# EAGLE library part LT6370HDD#PBF (library LT6370HDD_PBF)
Check availability <https://pricing.snapeda.com/parts/LT6370HDD%23PBF/Analog%20Devices/view-part?ref=eda>
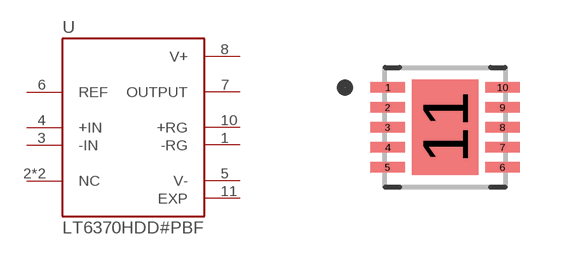
[diagram p0: symbol with the pads of SON50P300X300X80-11N; footprint SON50P300X300X80-11N]

Designator prefix U

## LT6370HDD#PBF (Availability: In Stock; Check_prices: https://www.snapeda.com/parts/LT6370HDD%23PBF/Analog+Devices/view-part/?ref=eda; Description: 25µV, 0.3µV/°C, Low Noise Instrumentation Amplifier; MF: Analog Devices; MP: LT6370HDD#PBF; Package: DFN -10 Analog Devices; Price: None; SnapEDA_Link: https://www.snapeda.com/parts/LT6370HDD%23PBF/Analog+Devices/view-part/?ref=snap)  [SON50P300X300X80-11N]
1  -RG  pas
2  NC  nc
3  -IN  in
4  +IN  in
5  V-  pwr
6  REF  in
7  OUTPUT  out
8  V+  pwr
9  NC  nc
10  +RG  pas
11  EXP  pas

## Footprint SON50P300X300X80-11N (pad centres in mm)
smd 0.86 x 0.27: 1 -1.435,1; 2 -1.435,0.5; 3 -1.435,0; 4 -1.435,-0.5; 5 -1.435,-1; 6 1.435,-1; 7 1.435,-0.5; 8 1.435,0; 9 1.435,0.5; 10 1.435,1
smd 1.65 x 2.38: 11 0,0